# Altium footprint library MSOP-8_MS.PcbLib: 1 footprints
Each footprint in its own frame and in the unit in brackets; x right, y up, seen from the top. Pads: shape width x height; smd on the part's side, far side on the other; paste and mask are expansions set on the pad; w line width, h text height; cw(c..) or ccw(c..) is an arc to the next point about the centre after c.
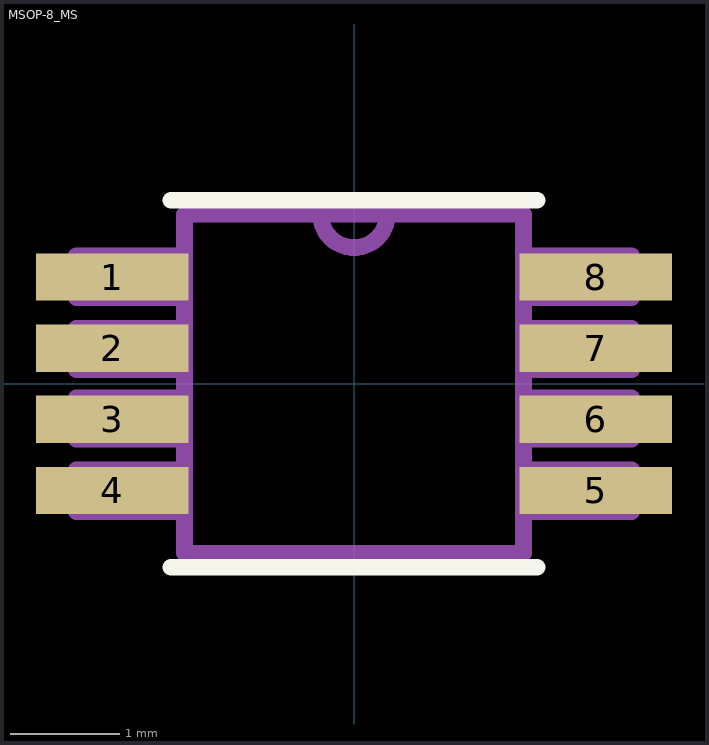
[diagram p0: the footprint, top view; thin cyan lines are the x and y axes]

## MSOP-8_MS [mil]
pads (8):
  rect 55x17 smd: 1(-87,38.39) 2(-87,12.8) 3(-87,-12.8) 4(-87,-38.39) 5(87,-38.39) 6(87,-12.8) 7(87,12.8) 8(87,38.39)
Top Overlay:
  lines w6: -66,-66 66,-66 ; -66,66 66,66
Mechanical 13:
  lines w6: -12,61 ccw(c0,61) 12,61 ; -12,61 -61,61 -61,-61 61,-61 61,61 12,61 ; -12,61 12,61 ; -100,-46 -61,-46 -61,-31 -100,-31 -100,-46 ; -100,-20 -61,-20 -61,-5 -100,-5 -100,-20 ; -100,5 -61,5 -61,20 -100,20 -100,5 ; -100,31 -61,31 -61,46 -100,46 -100,31 ; 61,-46 100,-46 100,-31 61,-31 61,-46 ; 61,-20 100,-20 100,-5 61,-5 61,-20 ; 61,5 100,5 100,20 61,20 61,5 ; 61,31 100,31 100,46 61,46 61,31